# Altium schematic symbol library DRV8243-Q1.SchLib: 1 symbol
Pins are listed as number, name and electrical type; pins without a type are passive.

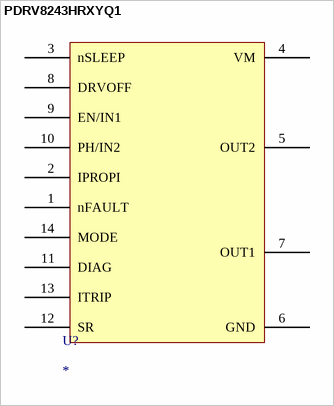
[diagram p0: symbol PDRV8243HRXYQ1]

## PDRV8243HRXYQ1
designator U?
footprint DRV8243_motor_driver
pins: 1 nFAULT, 2 IPROPI, 3 nSLEEP, 4 VM, 5 OUT2, 6 GND, 7 OUT1, 8 DRVOFF, 9 EN/IN1, 10 PH/IN2, 11 DIAG, 12 SR, 13 ITRIP, 14 MODE